# EAGLE library part PCA9536 (library di_ic)
NXP PCA9536 - 4-bit I2C-bus and SMBus I/O port. http://www.nxp.com/documents/data_sheet/PCA9536.pdf
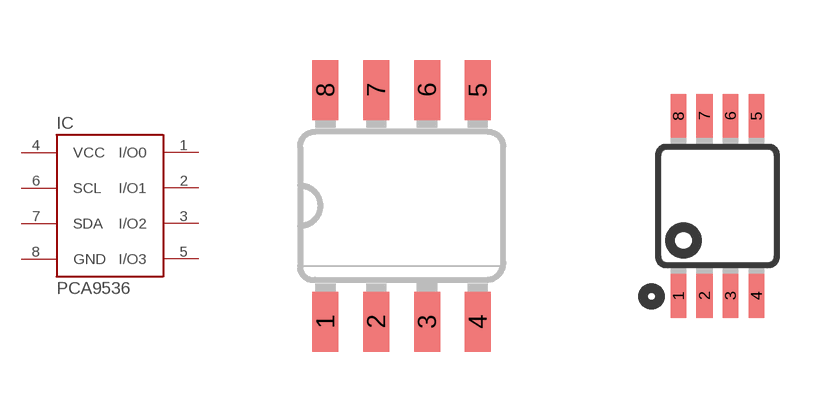
[diagram p50: symbol with the pads of SO08N; footprints SO08N, MSOP8]

Designator prefix IC

## PCA9536-SO08  [SO08N]
1  I/O0
2  I/O1
3  I/O2
4  VCC  pwr
5  I/O3
6  SCL  in
7  SDA
8  GND  pwr

## PCA9536-MSOP8  [MSOP8]
Pads as for SO08N

## Footprint SO08N (pad centres in mm)
smd 0.65 x 1.5: 1 -1.905,-2.9; 2 -0.635,-2.9; 3 0.635,-2.9; 4 1.905,-2.9; 5 1.905,2.9; 6 0.635,2.9; 7 -0.635,2.9; 8 -1.905,2.9

## Footprint MSOP8 (pad centres in mm)
8M, 8-Lead, 0.118" Wide, Miniature Small Outline Package MSOP 8M-Package doc1097.pdf
smd 0.4 x 1.1: 1 -0.975,-2.25; 2 -0.325,-2.25; 3 0.325,-2.25; 4 0.975,-2.25; 5 0.975,2.25; 6 0.325,2.25; 7 -0.325,2.25; 8 -0.975,2.25